# EAGLE library part ST_L3GD20H (library motoko_5_0)
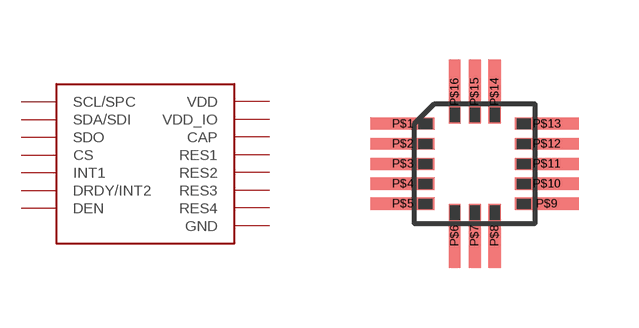
[diagram p5: symbol with the pads of ST_LGA16L; footprint ST_LGA16L]

Designator prefix -

## ST_L3GD20H  [ST_LGA16L]
P$1  VDD_IO  pwr
P$2  SCL/SPC
P$3  SDA/SDI
P$4  SDO
P$5  CS
P$6  DRDY/INT2
P$7  INT1
P$8  DEN
P$9  RES1
P$10  RES2
P$11  RES3
P$12  GND  pwr
P$13  GND  pwr
P$14  CAP
P$15  RES4
P$16  VDD  pwr

## Footprint ST_LGA16L (pad centres in mm)
smd 1.6 x 0.3: P$1 -1.8,1; P$2 -1.8,0.5; P$3 -1.8,0; P$4 -1.8,-0.5; P$5 -1.8,-1; P$9 1.8,-1; P$10 1.8,-0.5; P$11 1.8,0; P$12 1.8,0.5; P$13 1.8,1
smd 0.3 x 1.6: P$6 -0.5,-1.8; P$7 0,-1.8; P$8 0.5,-1.8; P$14 0.5,1.8; P$15 0,1.8; P$16 -0.5,1.8